# EAGLE library part M74HC4520B1R (library ST_Microelctronics_By_element14_Batch_1)
DUAL 4 BIT BINARY COUNTER
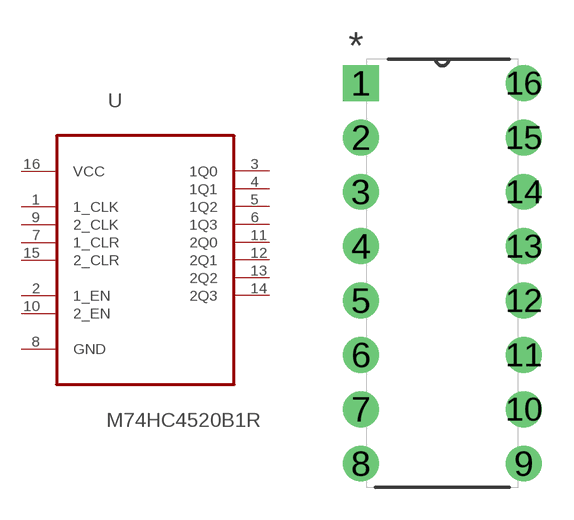
[diagram p242: symbol with the pads of DIP254P762X510-16; footprint DIP254P762X510-16]

Designator prefix U

## M74HC4520B1R (MPN: M74HC4520B1R; OC_FARNELL: 381019; OC_NEWARK: 89K0918; PACKAGE: PDIP-16; SUPPLIER: STMICROELECTRONICS)  [DIP254P762X510-16]
1  1_CLK  in
2  1_EN  in
3  1Q0  out
4  1Q1  out
5  1Q2  out
6  1Q3  out
7  1_CLR  in
8  GND  pas
9  2_CLK  in
10  2_EN  in
11  2Q0  out
12  2Q1  out
13  2Q2  out
14  2Q3  out
15  2_CLR  in
16  VCC  pwr

## Footprint DIP254P762X510-16 (pad centres in mm)
drill 1.118 square: 1 -7.62,17.78
drill 1.118: 2 -7.62,15.24; 3 -7.62,12.7; 4 -7.62,10.16; 5 -7.62,7.62; 6 -7.62,5.08; 7 -7.62,2.54; 8 -7.62,0; 9 0,0; 10 0,2.54; 11 0,5.08; 12 0,7.62; 13 0,10.16; 14 0,12.7; 15 0,15.24; 16 0,17.78